# EAGLE library part MP2451 (library angrypig7-IC-Power)
DC-DC Step-Down regulator 3.3 ~ 36V in 0.6A out 2Mhz 500mΩ internal MOSFET 130uA quiescent current
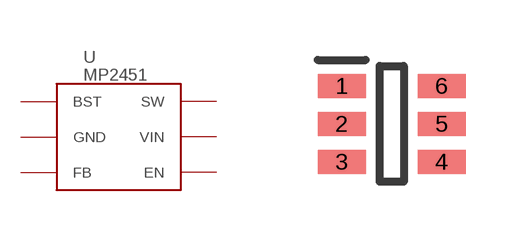
[diagram p5: symbol with the pads of SOT-23-6; footprint SOT-23-6]

Designator prefix U

## MP2451  [SOT-23-6]
1  BST  in
2  GND  in
3  FB  pwr
4  EN  in
5  VIN  out
6  SW  out

## Footprint SOT-23-6 (pad centres in mm)
DBV (R-PDSO-G6)
smd 1.2 x 0.6: 1 -1.25,0.95; 2 -1.25,0; 3 -1.25,-0.95; 4 1.25,-0.95; 5 1.25,0; 6 1.25,0.95